# EAGLE library part BLUETOOTH_REDUCED (library daGloane)
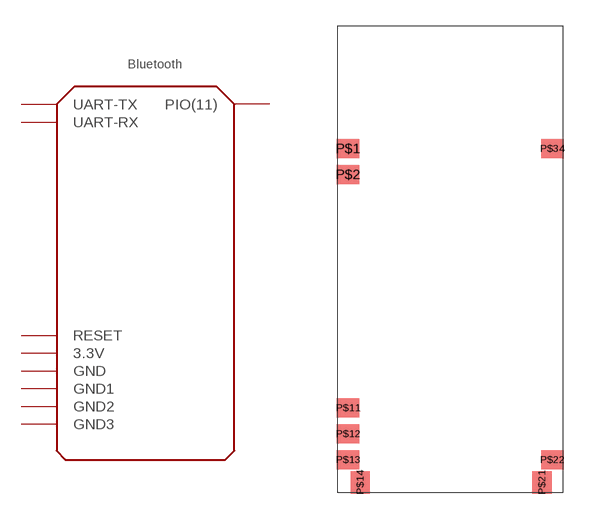
[diagram p9: symbol with the pads of BLUETOOTH_REDUCED; footprint BLUETOOTH_REDUCED]

Designator prefix -

## BLUETOOTH_REDUCED  [BLUETOOTH_REDUCED]
P$1  UART-TX  out
P$2  UART-RX  in
P$11  RESET  in
P$12  3.3V  pwr
P$13  GND  pwr
P$14  GND1  pwr
P$21  GND2  pwr
P$22  GND3  pwr
P$34  PIO(11)

## Footprint BLUETOOTH_REDUCED (pad centres in mm)
smd 1.3 x 1.1: P$1 -5.75,6.87; P$2 -5.75,5.37; P$11 -5.75,-8.13; P$12 -5.75,-9.63; P$13 -5.75,-11.13; P$22 6.05,-11.13; P$34 6.05,6.87
smd 1.1 x 1.3: P$14 -5.05,-12.43; P$21 5.45,-12.43